# EAGLE library part R-545.0PA (library R-545.0PA)
2,3,4,5 Amp SIP12 Vertical & Horizontal Single Output
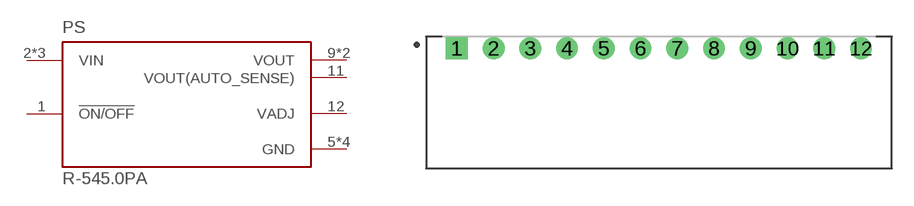
[diagram p0: symbol with the pads of CONV_R-545.0PA; footprint CONV_R-545.0PA]

Designator prefix PS

## R-545.0PA (Description: 4A DC/DC-Converter 'INNOLINE' SIP12 reg; Digi-Key_Part_Number: R-545.0PA-ND; MF: Recom Power; MP: R-545.0PA; Package: SIP-12 Recom Power)  [CONV_R-545.0PA]
1  !ON/OFF  in
2  VIN  in
3  VIN  in
4  VIN  in
5  GND  pwr
6  GND  pwr
7  GND  pwr
8  GND  pwr
9  VOUT  out
10  VOUT  out
11  VOUT(AUTO_SENSE)  out
12  VADJ  pas

## Footprint CONV_R-545.0PA (pad centres in mm)
drill 1 square: 1 -13.97,3.75
drill 1: 2 -11.43,3.75; 3 -8.89,3.75; 4 -6.35,3.75; 5 -3.81,3.75; 6 -1.27,3.75; 7 1.27,3.75; 8 3.81,3.75; 9 6.35,3.75; 10 8.89,3.75; 11 11.43,3.75; 12 13.97,3.75